# Altium footprint library SensingBox.PcbLib: 44 footprints (part 2 of 3)
Each footprint in its own frame and in the unit in brackets; x right, y up, seen from the top. Pads: shape width x height; smd on the part's side, far side on the other; paste and mask are expansions set on the pad; w line width, h text height; cw(c..) or ccw(c..) is an arc to the next point about the centre after c.
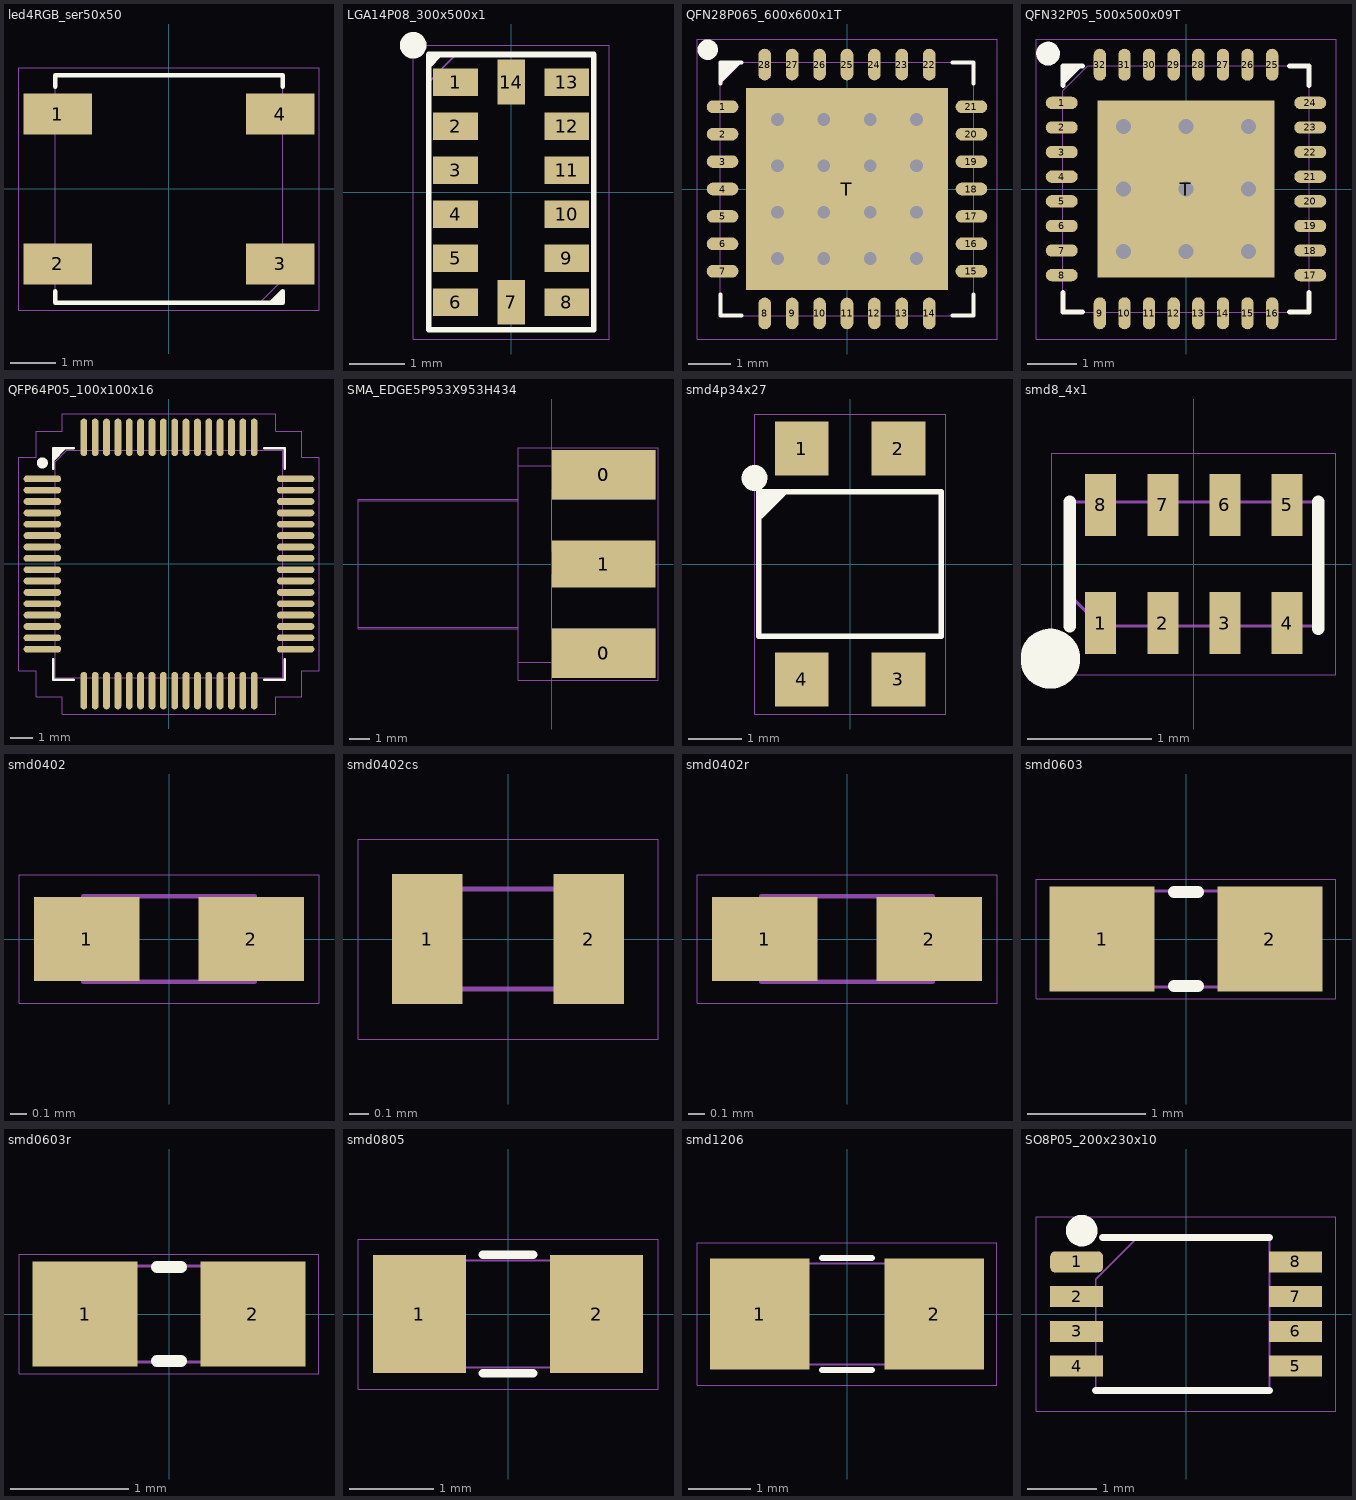
[diagram p1: the footprints below, top view; thin cyan lines are the x and y axes]

## led4RGB_ser50x50 [mm]
pads (4):
  rect 1.5x0.9 smd: 1(-2.45,1.65) 2(-2.45,-1.65) 3(2.45,-1.65) 4(2.45,1.65)
Top Overlay:
  region: 2.5,-2.25 2.25,-2.5 2.5,-2.5
  lines w0.102: -2.5,-2.25 -2.5,-2.5 2.5,-2.5 2.5,-2.25 2.25,-2.5 ; -2.5,2.25 -2.5,2.5 2.5,2.5 2.5,2.25
Mechanical 3:
  lines w0.025: -2.5,-2.5 -2.5,2.5 2.5,2.5 2.5,-2 2,-2.5 -2.5,-2.5
Mechanical 5:
  lines w0: -3.302,-2.667 3.302,-2.667 3.302,2.667 -3.302,2.667 -3.302,-2.667
Mechanical 7:
  text ".Designator" at -1.092,-0.046 h0.38
3D body: height 1, standoff 0, extent -2.5,-2.5 2.5,2.5
3D body: height 1.6, standoff 1, extent -2.5,-2.5 0,2.5
3D body: height 1.6, standoff 1, extent -2.5,0 2.5,2.5
3D body: height 1.6, standoff 1, extent -2.5,-2.5 2.5,2.5

## LGA14P08_300x500x1 [mm]
pads (14):
  rect 0.813x0.5 smd: 1(-1.01,2) 2(-1.01,1.2) 3(-1.01,0.4) 4(-1.01,-0.4) 5(-1.01,-1.2) 6(-1.01,-2) 8(1.01,-2) 9(1.01,-1.2) 10(1.01,-0.4) 11(1.01,0.4) 12(1.01,1.2) 13(1.01,2)
  rect 0.5x0.813 smd: 7(0,-2) 14(0,2)
Top Overlay:
  circle w0.254: c-1.778,2.667 r0.114
  region: -1.5,2.5 -1.5,2.234 -1.234,2.5
  lines w0.102: -1.5,-2.5 -1.5,2.5 1.5,2.5 1.5,-2.5 -1.5,-2.5
Mechanical 3:
  lines w0.025: -1.5,-2.5 -1.5,2 -1,2.5 1.5,2.5 1.5,-2.5 -1.5,-2.5
Mechanical 5:
  lines w0: -1.778,-2.667 1.778,-2.667 1.778,2.667 -1.778,2.667 -1.778,-2.667
Mechanical 7:
  text ".Designator" at -0.127,0.508 h0.38
3D body: height 1, standoff -0.1, extent -1.5,-2.5 1.5,2.5

## QFN28P065_600x600x1T [mm]
pads (29):
  oval 0.75x0.3 smd: 1(-2.95,1.95) 2(-2.95,1.3) 3(-2.95,0.65) 4(-2.95,0) 5(-2.95,-0.65) 6(-2.95,-1.3) 7(-2.95,-1.95) 15(2.95,-1.95) 16(2.95,-1.3) 17(2.95,-0.65) 18(2.95,0) 19(2.95,0.65) 20(2.95,1.3) 21(2.95,1.95)
  oval 0.3x0.75 smd: 8(-1.95,-2.95) 9(-1.3,-2.95) 10(-0.65,-2.95) 11(0,-2.95) 12(0.65,-2.95) 13(1.3,-2.95) 14(1.95,-2.95) 22(1.95,2.95) 23(1.3,2.95) 24(0.65,2.95) 25(0,2.95) 26(-0.65,2.95) 27(-1.3,2.95) 28(-1.95,2.95)
  rect 4.78x4.78 smd paste-3: T(0,0)
via 1.65,-1.65 diameter 0.61 hole 0.305
via 0.55,-1.65 diameter 0.61 hole 0.305
via -0.55,-1.65 diameter 0.61 hole 0.305
via -1.65,-1.65 diameter 0.61 hole 0.305
via 1.65,-0.55 diameter 0.61 hole 0.305
via 0.55,-0.55 diameter 0.61 hole 0.305
via -0.55,-0.55 diameter 0.61 hole 0.305
via -1.65,-0.55 diameter 0.61 hole 0.305
via 1.65,0.55 diameter 0.61 hole 0.305
via 0.55,0.55 diameter 0.61 hole 0.305
via -0.55,0.55 diameter 0.61 hole 0.305
via -1.65,0.55 diameter 0.61 hole 0.305
via 1.65,1.65 diameter 0.61 hole 0.305
via 0.55,1.65 diameter 0.61 hole 0.305
via -0.55,1.65 diameter 0.61 hole 0.305
via -1.65,1.65 diameter 0.61 hole 0.305
Top Overlay:
  circle w0.254: c-3.302,3.302 r0.114
  region: -3,3 -3,2.5 -2.5,3
  lines w0.102: -3,-2.5 -3,-3 -2.5,-3 ; -3,2.5 -3,3 -2.5,3 ; 2.5,-3 3,-3 3,-2.5 ; 2.5,3 3,3 3,2.5
Top Paste:
  region: -0.997,-0.997 -1.797,-0.997 -1.797,-1.797 -0.997,-1.797
  region: 1.797,-0.997 0.997,-0.997 0.997,-1.797 1.797,-1.797
  region: 0.4,-0.997 -0.4,-0.997 -0.4,-1.797 0.4,-1.797
  region: 1.797,1.797 0.997,1.797 0.997,0.997 1.797,0.997
  region: -0.997,1.797 -1.797,1.797 -1.797,0.997 -0.997,0.997
  region: 0.4,1.797 -0.4,1.797 -0.4,0.997 0.4,0.997
  region: -0.997,0.4 -1.797,0.4 -1.797,-0.4 -0.997,-0.4
  region: 1.797,0.4 0.997,0.4 0.997,-0.4 1.797,-0.4
  region: 0.4,0.4 -0.4,0.4 -0.4,-0.4 0.4,-0.4
Mechanical 3:
  lines w0.025: -3,-3 -3,2.5 -2.5,3 3,3 3,-3 -3,-3
Mechanical 5:
  lines w0: -3.556,-3.556 -3.556,3.556 3.556,3.556 3.556,-3.556 -3.556,-3.556
Mechanical 7:
  text ".Designator" at 0.762,0.127 h0.38
3D body: height 1, standoff -0.11, extent -3,-3 3,3

## QFN32P05_500x500x09T [mm]
pads (33):
  oval 0.65x0.25 smd: 1(-2.525,1.75) 2(-2.525,1.25) 3(-2.525,0.75) 4(-2.525,0.25) 5(-2.525,-0.25) 6(-2.525,-0.75) 7(-2.525,-1.25) 8(-2.525,-1.75) 17(2.525,-1.75) 18(2.525,-1.25) 19(2.525,-0.75) 20(2.525,-0.25) 21(2.525,0.25) 22(2.525,0.75) 23(2.525,1.25) 24(2.525,1.75)
  oval 0.25x0.65 smd: 9(-1.75,-2.525) 10(-1.25,-2.525) 11(-0.75,-2.525) 12(-0.25,-2.525) 13(0.25,-2.525) 14(0.75,-2.525) 15(1.25,-2.525) 16(1.75,-2.525) 25(1.75,2.525) 26(1.25,2.525) 27(0.75,2.525) 28(0.25,2.525) 29(-0.25,2.525) 30(-0.75,2.525) 31(-1.25,2.525) 32(-1.75,2.525)
  rect 3.6x3.6 smd paste-2: T(0,0)
via 0,0 diameter 0.61 hole 0.305
via -1.27,0 diameter 0.61 hole 0.305
via -1.27,1.27 diameter 0.61 hole 0.305
via 0,1.27 diameter 0.61 hole 0.305
via -1.27,-1.27 diameter 0.61 hole 0.305
via 0,-1.27 diameter 0.61 hole 0.305
via 1.27,-1.27 diameter 0.61 hole 0.305
via 1.27,0 diameter 0.61 hole 0.305
via 1.27,1.27 diameter 0.61 hole 0.305
Top Overlay:
  region: -2.5,2.5 -2.5,2.1 -2.1,2.5
  lines w0.102: -2.5,-2.1 -2.5,-2.5 -2.1,-2.5 ; -2.5,2.1 -2.5,2.5 -2.1,2.5 ; 2.1,-2.5 2.5,-2.5 2.5,-2.1 ; 2.1,2.5 2.5,2.5 2.5,2.1
  lines w0.254: -2.7,2.7 cw(c-2.802,2.751) -2.688,2.751
Top Paste:
  rectangle: -1.2,0.6 -0.6,1.2
  rectangle: -1.2,-0.3 -0.6,0.3
  rectangle: -1.2,-1.2 -0.6,-0.6
  rectangle: -0.3,-1.2 0.3,-0.6
  rectangle: 0.6,-1.2 1.2,-0.6
  rectangle: 0.6,0.6 1.2,1.2
  rectangle: -0.3,0.6 0.3,1.2
  rectangle: 0.6,-0.3 1.2,0.3
  rectangle: -0.3,-0.3 0.3,0.3
Mechanical 3:
  lines w0.025: -2.5,-2.5 2.5,-2.5 2.5,2.5 -2,2.5 -2.5,2 -2.5,-2.5
Mechanical 5:
  lines w0: -3.048,-3.048 -3.048,3.048 3.048,3.048 3.048,-3.048 -3.048,-3.048
Mechanical 7:
  text ".Designator" at 0,0.762 h0.38
3D body: height 0.9, standoff 0.05, extent -2.5,-2.5 2.5,2.5

## QFP64P05_100x100x16 [mm]
pads (64):
  oval 1.65x0.3 smd: 1(-5.575,3.75) 2(-5.575,3.25) 3(-5.575,2.75) 4(-5.575,2.25) 5(-5.575,1.75) 6(-5.575,1.25) 7(-5.575,0.75) 8(-5.575,0.25) 9(-5.575,-0.25) 10(-5.575,-0.75) 11(-5.575,-1.25) 12(-5.575,-1.75) 13(-5.575,-2.25) 14(-5.575,-2.75) 15(-5.575,-3.25) 16(-5.575,-3.75) 33(5.575,-3.75) 34(5.575,-3.25) 35(5.575,-2.75) 36(5.575,-2.25) 37(5.575,-1.75) 38(5.575,-1.25) 39(5.575,-0.75) 40(5.575,-0.25) 41(5.575,0.25) 42(5.575,0.75) 43(5.575,1.25) 44(5.575,1.75) 45(5.575,2.25) 46(5.575,2.75) 47(5.575,3.25) 48(5.575,3.75)
  oval 0.3x1.65 smd: 17(-3.75,-5.575) 18(-3.25,-5.575) 19(-2.75,-5.575) 20(-2.25,-5.575) 21(-1.75,-5.575) 22(-1.25,-5.575) 23(-0.75,-5.575) 24(-0.25,-5.575) 25(0.25,-5.575) 26(0.75,-5.575) 27(1.25,-5.575) 28(1.75,-5.575) 29(2.25,-5.575) 30(2.75,-5.575) 31(3.25,-5.575) 32(3.75,-5.575) 49(3.75,5.575) 50(3.25,5.575) 51(2.75,5.575) 52(2.25,5.575) 53(1.75,5.575) 54(1.25,5.575) 55(0.75,5.575) 56(0.25,5.575) 57(-0.25,5.575) 58(-0.75,5.575) 59(-1.25,5.575) 60(-1.75,5.575) 61(-2.25,5.575) 62(-2.75,5.575) 63(-3.25,5.575) 64(-3.75,5.575)
Top Overlay:
  circle w0.254: c-5.575,4.45 r0.114
  region: -5.1,5.1 -5.1,4.529 -5.084,4.529 -4.513,5.1
  lines w0.102: -5.1,-4.2 -5.1,-5.1 -4.2,-5.1 ; -5.1,4.2 -5.1,5.1 -4.2,5.1 ; 4.2,-5.1 5.1,-5.1 5.1,-4.2 ; 4.2,5.1 5.1,5.1 5.1,4.2
Mechanical 3:
  lines w0.025: -5,-5 -5,4.5 -4.5,5 5,5 5,-5 -5,-5
Mechanical 5:
  lines w0: -6.604,-4.699 -6.604,4.699 -5.842,4.699 -5.842,5.842 -5.461,5.842 -4.699,5.842 -4.699,6.604 4.699,6.604 4.699,5.842 5.842,5.842 5.842,4.699 6.604,4.699 6.604,-4.699 5.842,-4.699 5.842,-5.842 4.699,-5.842 4.699,-6.604 -4.699,-6.604 -4.699,-5.842 -5.842,-5.842 -5.842,-4.699 -6.604,-4.699
3D body: height 1.63, standoff 0, extent -6.069,-6.075 6.075,6.069

## SMA_EDGE5P953X953H434 [mm]
pads (5):
  rect 5.08x2.415 smd: 0(2.54,-4.383) 0(2.54,4.383)
  rect 5.08x2.415 smd far side: 0(2.54,-4.383) 0(2.54,4.383)
  rect 5.08x2.29 smd: 1(2.54,0)
Mechanical 3:
  lines w0.025: -1.65,-3.1 -9.525,-3.1 -9.525,3.1 -1.65,3.1 ; -1.65,-4.826 -1.65,4.826 4.699,4.826 4.699,3.683 0,3.683 0,0.635 4.699,0.635 4.699,-0.508 0,-0.508 0,-3.683 4.699,-3.683 4.699,-4.826 -1.65,-4.826
Mechanical 5:
  lines w0: -9.525,-3.175 -1.651,-3.175 -1.651,-5.715 5.207,-5.715 5.207,5.715 -1.651,5.715 -1.651,3.175 -9.525,3.175 -9.525,-3.175
Mechanical 7:
  text ".Designator" at 3.81,0.254 h0.38
3D body: height 4.54, standoff -3.88, extent -9.66,-4.865 4.95,4.865

## smd4p34x27 [mm]
pads (4):
  rect 1x1 smd: 1(-0.9,2.15) 2(0.9,2.15) 3(0.9,-2.15) 4(-0.9,-2.15)
Top Overlay:
  region: -1.7,1.35 -1.7,0.889 -1.7,0.793 -1.604,0.889 -1.143,1.35
  lines w0.102: -1.7,-1.35 1.7,-1.35 1.7,1.35 -1.7,1.35 -1.7,-1.35
  lines w0.254: -1.678,1.551 cw(c-1.78,1.602) -1.666,1.602
Mechanical 3:
  lines w0.025: -1.7,-1.35 -1.7,0.85 -1.2,1.35 1.7,1.35 1.7,-1.35 -1.7,-1.35
Mechanical 5:
  lines w0: -1.778,-2.794 1.778,-2.794 1.778,2.794 -1.778,2.794 -1.778,-2.794
Mechanical 7:
  text ".Designator" at -0.508,-0.127 h0.38
3D body: height 1.5, standoff 0, extent -1.7,-2.25 1.7,2.25

## smd8_4x1 [mm]
pads (8):
  rect 0.25x0.5 smd: 1(-0.75,-0.475) 2(-0.25,-0.475) 3(0.25,-0.475) 4(0.75,-0.475) 5(0.75,0.475) 6(0.25,0.475) 7(-0.25,0.475) 8(-0.75,0.475)
Top Overlay:
  circle w0.254: c-1.156,-0.762 r0.114
  lines w0.102: -1,-0.5 -1,0.5 ; 1,-0.52 1,0.5
Mechanical 3:
  lines w0.025: -1,-0.25 -1,0.5 1,0.5 1,-0.5 -0.75,-0.5 -1,-0.25
Mechanical 5:
  lines w0: -1.143,-0.889 1.143,-0.889 1.143,0.889 -1.143,0.889 -1.143,-0.889
Mechanical 7:
  text ".Designator" at -0.254,-0.762 h0.38
3D body: height 0.4, standoff 0, extent -1,-0.492 1,0.508

## smd0402 [mm]
pads (2):
  rect 0.625x0.5 smd: 1(-0.487,0) 2(0.487,0)
Mechanical 3:
  lines w0.025: -0.508,-0.254 -0.508,0.254 0.508,0.254 0.508,-0.254 -0.508,-0.254
Mechanical 5:
  lines w0: -0.889,-0.381 -0.889,0.381 0.889,0.381 0.889,-0.381 -0.889,-0.381
3D body: height 0.2, standoff 0, extent -0.492,-0.3 0.508,0.3

## smd0402cs [mm]
pads (2):
  rect 0.36x0.66 smd: 1(-0.41,0) 2(0.41,0)
Mechanical 3:
  lines w0.025: -0.508,-0.254 -0.508,0.254 0.508,0.254 0.508,-0.254 -0.508,-0.254
Mechanical 5:
  lines w0: -0.762,-0.508 -0.762,0.508 0.762,0.508 0.762,-0.508 -0.762,-0.508
3D body: height 0.66, standoff 0, extent -0.593,-0.318 0.593,0.318

## smd0402r [mm]
pads (2):
  rect 0.625x0.5 smd: 1(-0.487,0) 2(0.487,0)
Mechanical 3:
  lines w0.025: -0.508,-0.254 -0.508,0.254 0.508,0.254 0.508,-0.254 -0.508,-0.254
Mechanical 5:
  lines w0: -0.889,-0.381 -0.889,0.381 0.889,0.381 0.889,-0.381 -0.889,-0.381
3D body: height 0.37, standoff 0, extent -0.508,-0.254 0.512,0.266

## smd0603 [mil]
pads (2):
  rect 35x35 smd: 1(-27.99,0) 2(28,0)
Top Overlay:
  lines w4: -3.94,-15.75 3.94,-15.75 ; -3.94,15.75 3.94,15.75
Mechanical 3:
  lines w1: -32,-16 32,-16 32,16 -32,16 -32,-16
Mechanical 5:
  lines w0: -50,-20 50,-20 50,20 -50,20 -50,-20
3D body: height 33.43, standoff -0.43, extent -31.5,-17 31.5,16.86

## smd0603r [mil]
pads (2):
  rect 35x35 smd: 1(-27.99,0) 2(28,0)
Top Overlay:
  lines w4: -3.94,-15.75 3.94,-15.75 ; -3.94,15.75 3.94,15.75
Mechanical 3:
  lines w1: -32,-16 32,-16 32,16 -32,16 -32,-16
Mechanical 5:
  lines w0: -50,-20 -50,20 50,20 50,-20 -50,-20
3D body: height 18.5, standoff 0, extent -32,-16 31.78,16.28

## smd0805 [mm]
pads (2):
  rect 1.1x1.4 smd: 1(-1.05,0) 2(1.05,0)
Top Overlay:
  lines w0.102: -0.3,-0.7 0.3,-0.7 ; -0.3,0.7 0.3,0.7
Mechanical 3:
  lines w0.025: -1.016,-0.635 -1.016,0.635 1.016,0.635 1.016,-0.635 -1.016,-0.635
Mechanical 5:
  lines w0: -1.778,-0.889 1.778,-0.889 1.778,0.889 -1.778,0.889 -1.778,-0.889
3D body: height 1.37, standoff 0, extent -1.016,-0.686 1.016,0.686

## smd1206 [mm]
pads (2):
  rect 1.6x1.778 smd: 1(-1.4,0) 2(1.4,0)
Top Overlay:
  lines w0.102: -0.4,-0.9 0.4,-0.9 ; -0.4,0.9 0.4,0.9
Mechanical 3:
  lines w0.025: -1.6,-0.813 -1.6,0.813 1.6,0.813 1.6,-0.813 -1.6,-0.813
Mechanical 5:
  lines w0: -2.413,-1.143 2.413,-1.143 2.413,1.143 -2.413,1.143 -2.413,-1.143
3D body: height 1.66, standoff 0, extent -1.6,-0.78 1.6,0.78

## SO8P05_200x230x10 [mm]
pads (8):
  rrect50% 0.762x0.305 smd: 1(-1.575,0.75)
  rect 0.762x0.305 smd: 2(-1.575,0.25) 3(-1.575,-0.25) 4(-1.575,-0.75) 5(1.575,-0.75) 6(1.575,-0.25) 7(1.575,0.25) 8(1.575,0.75)
Top Overlay:
  circle w0.254: c-1.5,1.2 r0.1
  lines w0.102: -1.3,-1.1 1.2,-1.1 ; -1.2,1.1 1.2,1.1
Mechanical 3:
  lines w0.025: -1.3,-1.1 1.2,-1.1 1.2,1.1 -0.7,1.1 -1.3,0.5 -1.3,-1.1
Mechanical 5:
  lines w0: -2.159,-1.397 2.159,-1.397 2.159,1.397 -2.159,1.397 -2.159,-1.397
Mechanical 7:
  text ".Designator" at 0.381,-0.635 h0.38
3D body: height 0.9, standoff 0, extent -1.6,-1.05 1.6,1.05